# Altium footprint library M55Stack_StampS3.PcbLib: 2 footprints
Each footprint in its own frame and in the unit in brackets; x right, y up, seen from the top. Pads: shape width x height; smd on the part's side, far side on the other; paste and mask are expansions set on the pad; w line width, h text height; cw(c..) or ccw(c..) is an arc to the next point about the centre after c.
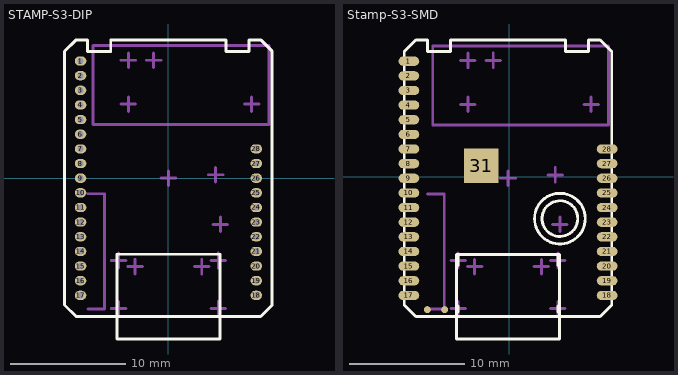
[diagram p0: the footprints below, top view; thin cyan lines are the x and y axes]

## STAMP-S3-DIP [mm]
pads (28):
  rrect100% 1x0.8 hole 0.55: 1(-7.62,10.16) 2(-7.62,8.89) 3(-7.62,7.62) 4(-7.62,6.35) 5(-7.62,5.08) 6(-7.62,3.81) 7(-7.62,2.54) 8(-7.62,1.27) 9(-7.62,0) 10(-7.62,-1.27) 11(-7.62,-2.54) 12(-7.62,-3.81) 13(-7.62,-5.08) 14(-7.62,-6.35) 15(-7.62,-7.62) 16(-7.62,-8.89) 17(-7.62,-10.16) 18(7.62,-10.16) 19(7.62,-8.89) 20(7.62,-7.62) 21(7.62,-6.35) 22(7.62,-5.08) 23(7.62,-3.81) 24(7.62,-2.54) 25(7.62,-1.27) 26(7.62,0) 27(7.62,1.27) 28(7.62,2.54)
F.SilkS:
  lines w0.254: -4.47,-13.945 -4.47,-6.595 ; -4.47,-13.945 -4.47,-6.595 ; -4.47,-13.945 4.47,-13.945 ; -4.47,-13.945 4.47,-13.945 ; -4.47,-6.595 4.47,-6.595 ; -4.47,-6.595 4.47,-6.595 ; 4.47,-13.945 4.47,-6.595 ; 4.47,-13.945 4.47,-6.595 ; -9,-11 -9,11 -8,12 -7,12 -7,11 -5,11 -5,12 5,12 5,11 7,11 7,12 8,12 9,11 9,-11 8,-12 -8,-12 -9,-11
B.SilkS:
  drawing of 107 lines, arcs and shapes, not listed
Eco1.User:
  lines w0.254: -6.985,-11.35 -5.53,-11.35 ; -6.985,-1.35 -5.53,-1.35 ; -4.955,-11.315 -3.685,-11.315 ; -4.955,-7.135 -3.685,-7.135 ; -4.32,-11.95 -4.32,-10.68 ; -4.32,-7.77 -4.32,-6.5 ; -4.115,6.414 -2.845,6.414 ; -4.115,10.224 -2.845,10.224 ; -3.525,-7.665 -2.255,-7.665 ; -3.48,5.779 -3.48,7.049 ; -3.48,9.589 -3.48,10.859 ; -2.89,-8.3 -2.89,-7.03 ; -1.915,10.224 -0.645,10.224 ; -1.28,9.589 -1.28,10.859 ; -0.635,0 0.635,0 ; 0,-0.635 0,0.635 ; 2.255,-7.665 3.525,-7.665 ; 2.89,-8.3 2.89,-7.03 ; 3.465,0.3 4.735,0.3 ; 3.685,-11.315 4.955,-11.315 ; 3.685,-7.135 4.955,-7.135 ; 3.865,-4 5.135,-4 ; 4.1,-0.335 4.1,0.935 ; 4.32,-11.95 4.32,-10.68 ; 4.32,-7.77 4.32,-6.5 ; 4.5,-4.635 4.5,-3.365 ; 6.585,6.414 7.855,6.414 ; 7.22,5.779 7.22,7.049 ; -5.53,-11.35 -5.53,-1.35 ; -5.53,-11.35 -5.53,-1.35 ; -6.528,4.636 -6.528,11.494 8.712,11.494 8.712,4.636 -6.528,4.636
3D body "M5STAMP-S3.step": height 4.7, standoff 0, extent -9.1,-13.948 9.195,12.167

## Stamp-S3-SMD [mm]
pads (31):
  rrect100% 1.8x0.8 smd: 1(-8.727,10.033) 2(-8.727,8.763) 3(-8.727,7.493) 4(-8.727,6.223) 5(-8.727,4.953) 6(-8.727,3.683) 7(-8.727,2.413) 8(-8.727,1.143) 9(-8.727,-0.127) 10(-8.727,-1.397) 11(-8.727,-2.667) 12(-8.727,-3.937) 13(-8.727,-5.207) 14(-8.727,-6.477) 15(-8.727,-7.747) 16(-8.727,-9.017) 17(-8.727,-10.287) 18(8.473,-10.287) 19(8.473,-9.017) 20(8.473,-7.747) 21(8.473,-6.477) 22(8.473,-5.207) 23(8.473,-3.937) 24(8.473,-2.667) 25(8.473,-1.397) 26(8.473,-0.127) 27(8.473,1.143) 28(8.473,2.413)
  round 0.6 smd: 29(-7.127,-11.527) 30(-5.627,-11.527)
  rect 3x3 smd: 31(-2.455,0.961)
F.SilkS:
  circle w0.254: c4.376,-3.627 r1.55
  lines w0.254: -4.447,-11.722 -4.447,-11.222 ; -4.447,-7.692 -4.447,-6.892 ; 4.193,-11.722 4.193,-11.222 ; 4.193,-7.692 4.193,-6.892 ; -9.127,-11.127 -9.127,10.873 -8.127,11.873 -7.127,11.873 -7.127,10.873 -5.127,10.873 -5.127,11.873 4.873,11.873 4.873,10.873 6.873,10.873 6.873,11.873 7.873,11.873 8.873,10.873 8.873,-11.127 7.873,-12.127 -8.127,-12.127 -9.127,-11.127 ; -4.597,-14.072 -4.597,-6.722 4.343,-6.722 4.343,-14.072 -4.597,-14.072 ; 6.576,-3.627 ccw(c4.376,-3.627) 6.576,-3.627
B.SilkS:
  drawing of 107 lines, arcs and shapes, not listed
Eco1.User:
  lines w0.254: -7.112,-11.477 -5.657,-11.477 ; -7.112,-1.477 -5.657,-1.477 ; -5.082,-11.442 -3.812,-11.442 ; -5.082,-7.262 -3.812,-7.262 ; -4.447,-12.077 -4.447,-10.807 ; -4.447,-7.897 -4.447,-6.627 ; -4.242,6.287 -2.972,6.287 ; -4.242,10.097 -2.972,10.097 ; -3.652,-7.792 -2.382,-7.792 ; -3.607,5.652 -3.607,6.922 ; -3.607,9.462 -3.607,10.732 ; -3.017,-8.427 -3.017,-7.157 ; -2.042,10.097 -0.772,10.097 ; -1.407,9.462 -1.407,10.732 ; -0.762,-0.127 0.508,-0.127 ; -0.127,-0.762 -0.127,0.508 ; 2.128,-7.792 3.398,-7.792 ; 2.763,-8.427 2.763,-7.157 ; 3.338,0.173 4.608,0.173 ; 3.558,-11.442 4.828,-11.442 ; 3.558,-7.262 4.828,-7.262 ; 3.738,-4.127 5.008,-4.127 ; 3.973,-0.462 3.973,0.808 ; 4.193,-12.077 4.193,-10.807 ; 4.193,-7.897 4.193,-6.627 ; 4.373,-4.762 4.373,-3.492 ; 6.458,6.287 7.728,6.287 ; 7.093,5.652 7.093,6.922 ; -5.657,-11.477 -5.657,-1.477 ; -5.657,-11.477 -5.657,-1.477 ; -6.655,4.509 -6.655,11.367 8.585,11.367 8.585,4.509 -6.655,4.509
3D body "M5STAMP-S3.step": height 4.7, standoff 0, extent -9.227,-14.075 9.068,12.04